# Altium footprint library TSW-101-15-T-S.PcbLib: 1 footprints
Each footprint in its own frame and in the unit in brackets; x right, y up, seen from the top. Pads: shape width x height; smd on the part's side, far side on the other; paste and mask are expansions set on the pad; w line width, h text height; cw(c..) or ccw(c..) is an arc to the next point about the centre after c.
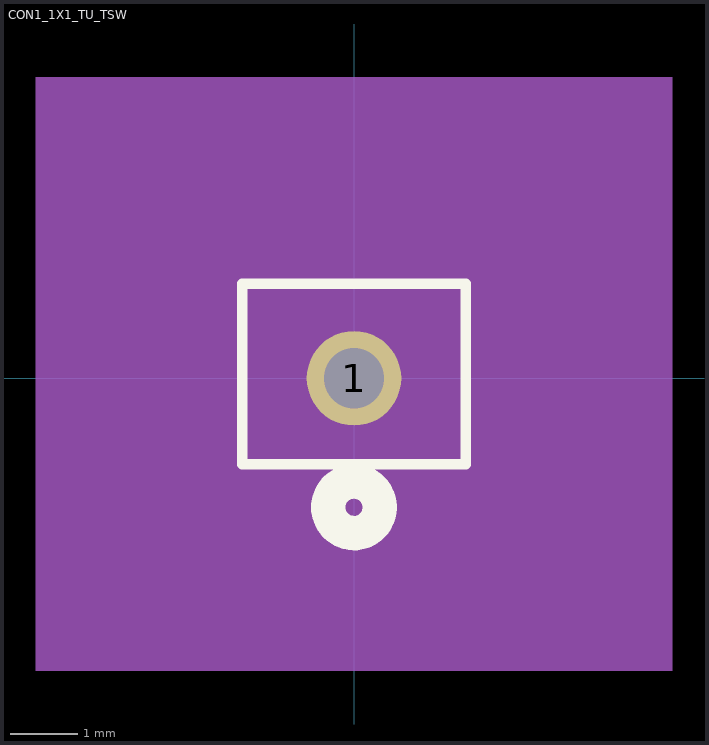
[diagram p0: the footprint, top view; thin cyan lines are the x and y axes]

## CON1_1X1_TU_TSW [mil]
pads (1):
  round 55 hole 35 mask+0: 1(0,0)
Top Overlay:
  circle w20: c0,-75 r15
  lines w6: -65,-50 65,-50 65,55 -65,55 -65,-50
Bottom Overlay:
  circle w20: c0,-75 r15
Mechanical 5:
  region: -185,175 185,175 185,-170 -185,-170
Mechanical 13:
  circle w0: c0,0 r10
  lines w1: -60,-45 60,-45 60,50 -60,50 -60,-45
Mechanical 15:
  region: 70,60 50,60 50,102 -50,102 -50,60 -70,60 -70,-55 -50,-55 -50,-102 50,-102 50,-55 70,-55
  lines w6: -70,-55 -70,60 -50,60 -50,102 50,102 50,60 70,60 70,-55 50,-55 50,-102 -50,-102 -50,-55 -70,-55
3D body "CON1_1X1_TU_TSW.step": height 500, standoff 0, extent -50,-50 50,50